# Altium integrated library NRJ6HM-1.IntLib: 1 symbol
Pins are listed as number, name and electrical type; pins without a type are passive.

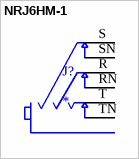
[diagram p0: symbol NRJ6HM-1]

## NRJ6HM-1
designator J?
1/4 stereo jack, metal nose with efficient chassis ground connection, T+R+S normalling contact; MF: Neutrik; MP: NRJ6HM-1; SnapEDA_Link: https://www.snapeda.com/parts/NRJ6HM-1/Neutrik/view-part/?ref=snap; Package: None; Value: *; Check_prices: https://www.snapeda.com/parts/NRJ6HM-1/Neutrik/view-part/?ref=eda
footprint NEUTRIK_NRJ6HM-1
pins: R, RN, S, SN, T, TN